# Altium footprint library OWMR.PcbLib: 59 footprints (part 3 of 4)
Each footprint in its own frame and in the unit in brackets; x right, y up, seen from the top. Pads: shape width x height; smd on the part's side, far side on the other; paste and mask are expansions set on the pad; w line width, h text height; cw(c..) or ccw(c..) is an arc to the next point about the centre after c.
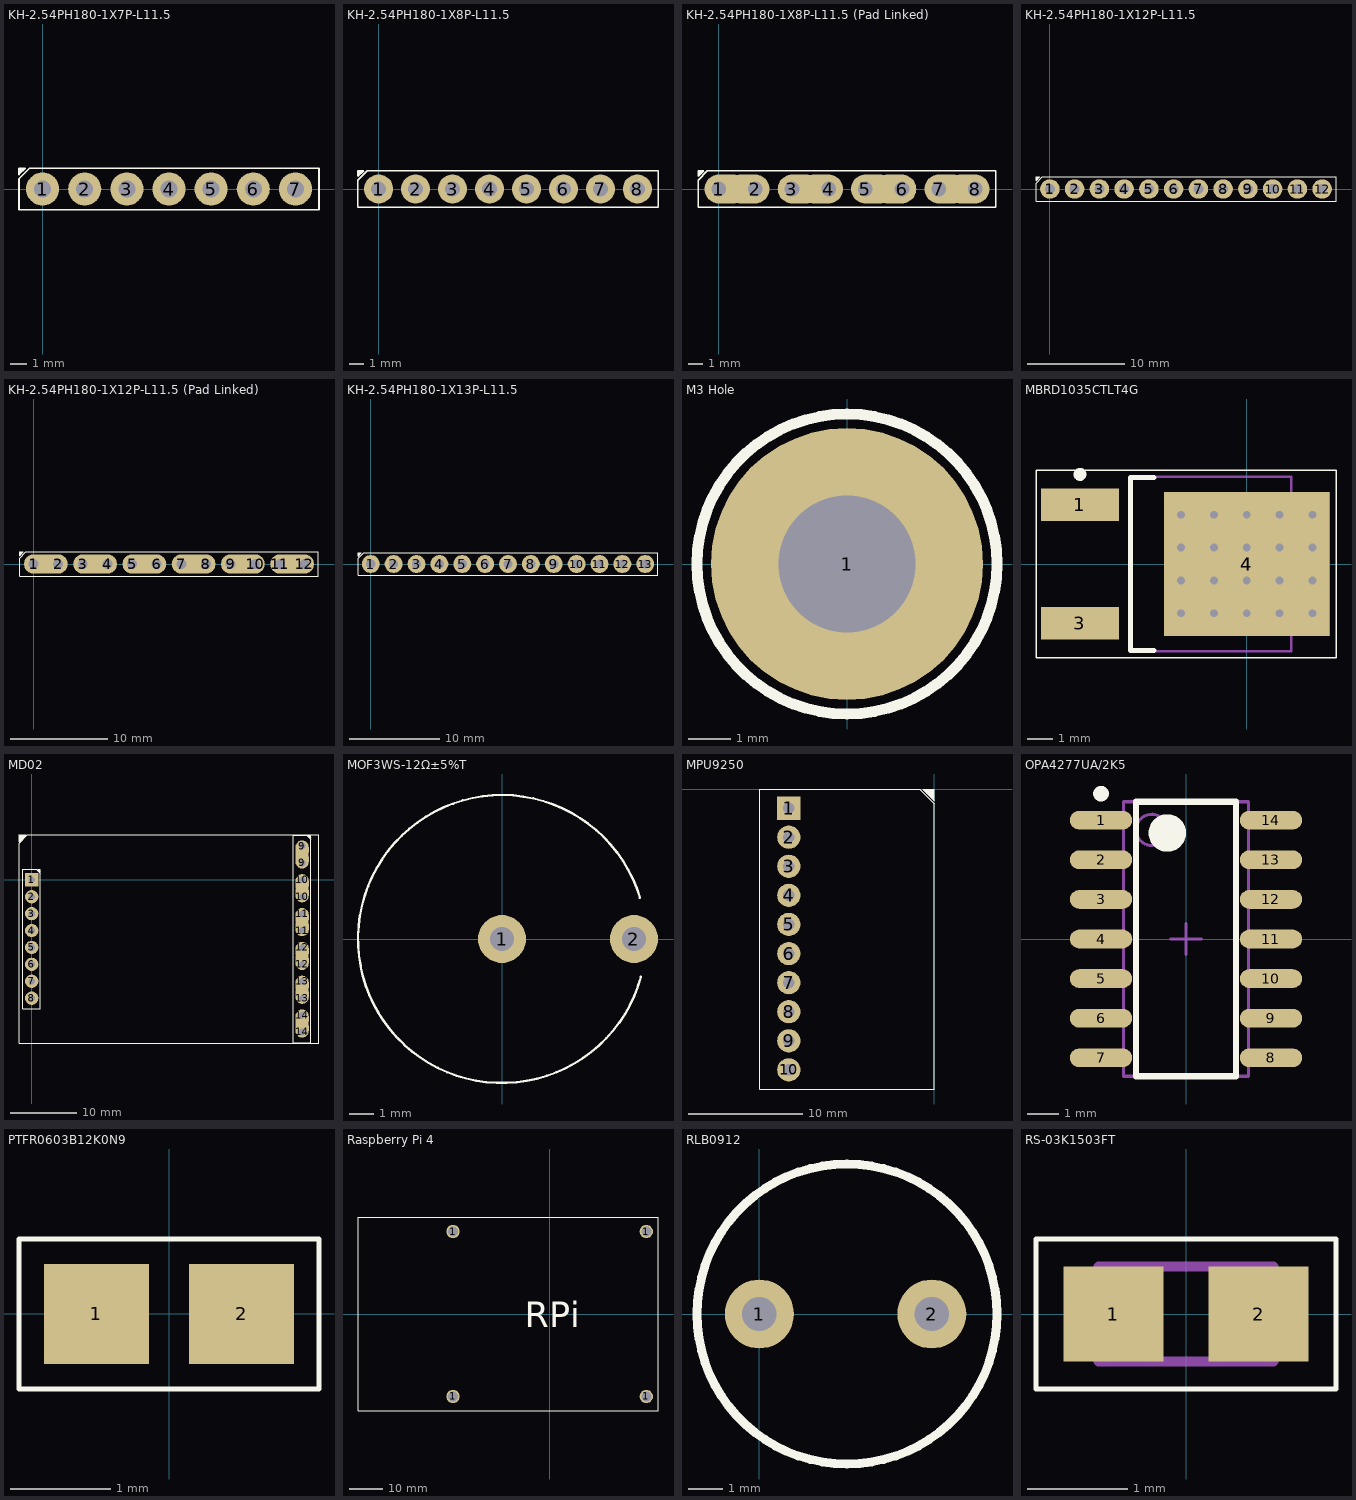
[diagram p2: the footprints below, top view; thin cyan lines are the x and y axes]

## KH-2.54PH180-1X7P-L11.5 [mm] "1x7P Pin Headers"
height 11.5
pads (7):
  round 2 hole 1.02: 1(0,0) 2(2.54,0) 3(5.08,0) 4(7.62,0) 5(10.16,0) 6(12.7,0) 7(15.24,0)
Top Overlay:
  region: -1.039,1.25 -1.42,1.25 -1.42,0.869
  lines w0.1: -1.42,-1.25 16.66,-1.25 16.66,1.25 -0.785,1.25 -1.42,0.615 -1.42,-1.25 ; -1.42,0.869 -1.42,1.25 -1.039,1.25 -1.42,0.869
3D body: height 8.9, standoff 0, extent -1.42,-1.25 16.66,1.25
3D body: height 3.2, standoff 0, extent -1.42,-1.25 16.66,1.25

## KH-2.54PH180-1X8P-L11.5 [mm] "1x8P Pin Headers"
height 11.5
pads (8):
  round 2 hole 1.02: 1(0,0) 2(2.54,0) 3(5.08,0) 4(7.62,0) 5(10.16,0) 6(12.7,0) 7(15.24,0) 8(17.78,0)
Top Overlay:
  region: -1.039,1.25 -1.42,1.25 -1.42,0.869
  lines w0.1: -1.42,-1.25 -1.42,0.615 -0.785,1.25 19.2,1.25 19.2,-1.25 -1.42,-1.25 ; -1.42,0.869 -1.039,1.25 -1.42,1.25 -1.42,0.869
3D body: height 8.9, standoff 0, extent -1.42,-1.25 19.2,1.25
3D body: height 3.2, standoff 0, extent -1.42,-1.25 19.2,1.25

## KH-2.54PH180-1X8P-L11.5 (Pad Linked) [mm] "Two Pad linked, 1x8 Pin Headers"
height 11.5
pads (8):
  oval 3x2 hole 1.02 copper offset 0.51,0: 1(0,0) 3(5.08,0) 5(10.16,0) 7(15.24,0)
  oval 3x2 hole 1.02 copper offset -0.51,0: 2(2.54,0) 4(7.62,0) 6(12.7,0) 8(17.78,0)
Top Overlay:
  region: -1.039,1.25 -1.42,1.25 -1.42,0.869
  lines w0.1: -1.42,-1.25 19.2,-1.25 19.2,1.25 -0.785,1.25 -1.42,0.615 -1.42,-1.25 ; -1.42,0.869 -1.42,1.25 -1.039,1.25 -1.42,0.869
3D body: height 8.9, standoff 0, extent -1.42,-1.25 19.2,1.25
3D body: height 3.2, standoff 0, extent -1.42,-1.25 19.2,1.25

## KH-2.54PH180-1X12P-L11.5 [mm] "1x12P Pin Headers"
height 11.5
pads (12):
  round 2 hole 1.02: 1(0,0) 2(2.54,0) 3(5.08,0) 4(7.62,0) 5(10.16,0) 6(12.7,0) 7(15.24,0) 8(17.78,0) 9(20.32,0) 10(22.86,0) 11(25.4,0) 12(27.94,0)
Top Overlay:
  region: -1.039,1.25 -1.42,1.25 -1.42,0.869
  lines w0.1: -1.42,-1.25 -1.42,0.615 -0.785,1.25 29.36,1.25 29.36,-1.25 -1.42,-1.25 ; -1.42,0.869 -1.039,1.25 -1.42,1.25 -1.42,0.869
3D body: height 8.9, standoff 0, extent -1.42,-1.25 29.36,1.25
3D body: height 3.2, standoff 0, extent -1.42,-1.25 29.36,1.25

## KH-2.54PH180-1X12P-L11.5 (Pad Linked) [mm] "Two Pad Linked, 1x12P Pin Headers"
height 11.5
pads (12):
  oval 3x2 hole 1.02 copper offset 0.51,0: 1(0,0) 3(5.08,0) 5(10.16,0) 7(15.24,0) 9(20.32,0) 11(25.4,0)
  oval 3x2 hole 1.02 copper offset -0.51,0: 2(2.54,0) 4(7.62,0) 6(12.7,0) 8(17.78,0) 10(22.86,0) 12(27.94,0)
Top Overlay:
  region: -1.039,1.25 -1.42,1.25 -1.42,0.869
  lines w0.1: -1.42,-1.25 -1.42,0.615 -0.785,1.25 29.36,1.25 29.36,-1.25 -1.42,-1.25 ; -1.42,0.869 -1.039,1.25 -1.42,1.25 -1.42,0.869
3D body: height 8.9, standoff 0, extent -1.42,-1.25 29.36,1.25
3D body: height 3.2, standoff 0, extent -1.42,-1.25 29.36,1.25

## KH-2.54PH180-1X13P-L11.5 [mm] "1x13P Pin Headers"
height 11.5
pads (13):
  round 2 hole 1.02: 1(0,0) 2(2.54,0) 3(5.08,0) 4(7.62,0) 5(10.16,0) 6(12.7,0) 7(15.24,0) 8(17.78,0) 9(20.32,0) 10(22.86,0) 11(25.4,0) 12(27.94,0) 13(30.48,0)
Top Overlay:
  region: -1.039,1.25 -1.42,1.25 -1.42,0.869
  lines w0.1: -1.42,-1.25 -1.42,0.615 -0.785,1.25 31.9,1.25 31.9,-1.25 -1.42,-1.25 ; -1.42,0.869 -1.039,1.25 -1.42,1.25 -1.42,0.869
3D body: height 8.9, standoff 0, extent -1.42,-1.25 31.9,1.25
3D body: height 3.2, standoff 0, extent -1.42,-1.25 31.9,1.25

## M3 Hole [mm] "M3 Hole"
pads (1):
  round 6.35 hole 3.2: 1(0,0)
Top Overlay:
  circle w0.254: c0,0 r3.501
Bottom Overlay:
  circle w0.254: c0,0 r3.501
Top Assembly:
  circle w0.254: c0,0 r1.626

## MBRD1035CTLT4G [mm] "35V 5A 2Channel Diode IC"
height 2.38
pads (4):
  rect 3x1.25 smd: 1(-6.45,2.29) 3(-6.45,-2.29)
  rect 6.4x5.55 smd: 4(0,0)
  rect 6.4x5.55 smd far side: 4(0,0)
via 1.27,-1.905 diameter 0.6 hole 0.3
via 1.27,-0.635 diameter 0.6 hole 0.3
via 2.54,-0.635 diameter 0.6 hole 0.3
via 2.54,0.635 diameter 0.6 hole 0.3
via 1.27,0.635 diameter 0.6 hole 0.3
via 0,0.635 diameter 0.6 hole 0.3
via 0,-0.635 diameter 0.6 hole 0.3
via 0,-1.905 diameter 0.6 hole 0.3
via -1.27,-1.905 diameter 0.6 hole 0.3
via -1.27,-0.635 diameter 0.6 hole 0.3
via -1.27,0.635 diameter 0.6 hole 0.3
via -2.54,-0.635 diameter 0.6 hole 0.3
via -2.54,0.635 diameter 0.6 hole 0.3
via -1.27,1.905 diameter 0.6 hole 0.3
via 0,1.905 diameter 0.6 hole 0.3
via 1.27,1.905 diameter 0.6 hole 0.3
via 2.54,1.905 diameter 0.6 hole 0.3
via 2.54,-1.905 diameter 0.6 hole 0.3
via -2.54,-1.905 diameter 0.6 hole 0.3
via -2.54,1.905 diameter 0.6 hole 0.3
Top Overlay:
  circle w0.25: c-6.45,3.465 r0.125
  lines w0.05: -8.15,-3.625 3.45,-3.625 3.45,3.625 -8.15,3.625 -8.15,-3.625
  lines w0.2: -3.6,-3.35 -4.5,-3.35 -4.5,3.35 -3.6,3.35
Top Assembly:
  lines w0.1: -2.85,0 -1.85,0 ; -2.35,-0.5 -2.35,0.5 ; -4.5,-3.375 1.72,-3.375 1.72,3.375 -4.5,3.375 -4.5,-3.375
3D body "DPAK229P991X238-3N.step": height 2.51, standoff 0, extent -6.49,-3.375 3.415,3.375

## MD02 [mm] "MD02_17A_Motor_Driver"
pads (20):
  rect 2x2 hole 1: 1(0,0)
  round 2 hole 1: 2(0,-2.54) 3(0,-5.08) 4(0,-7.62) 5(0,-10.16) 6(0,-12.7) 7(0,-15.24) 8(0,-17.78)
  oval 2x2.8 hole 1 copper offset 0,0.55: 9(40.64,2.54) 10(40.64,-2.54) 11(40.64,-7.62) 12(40.64,-12.7) 13(40.64,-17.78) 14(40.64,-22.86)
  oval 2x2.8 hole 1 copper offset 0,-0.55: 9(40.64,5.08) 10(40.64,0) 11(40.64,-5.08) 12(40.64,-10.16) 13(40.64,-15.24) 14(40.64,-20.32)
Top Overlay:
  region: 41.965,6.319 41.965,6.7 41.584,6.7
  region: -0.889,6.75 -1.905,5.734 -1.905,6.75
  region: 1.325,1.239 1.325,1.62 0.944,1.62
  lines w0.1: -1.905,-24.53 43.18,-24.53 43.18,6.75 -0.635,6.75 -1.905,5.48 -1.905,-24.53 ; -1.905,5.734 -1.905,6.75 -0.889,6.75 -1.905,5.734 ; -1.325,-19.4 1.325,-19.4 1.325,0.985 0.69,1.62 -1.325,1.62 -1.325,-19.4 ; 0.944,1.62 1.325,1.239 1.325,1.62 0.944,1.62 ; 39.315,-24.48 41.965,-24.48 41.965,6.065 41.33,6.7 39.315,6.7 39.315,-24.48 ; 41.584,6.7 41.965,6.319 41.965,6.7 41.584,6.7
3D body: height 8.65, standoff 0, extent 39.305,-24.483 41.955,6.697
3D body: height 8.65, standoff 0, extent -1.335,-19.4 1.315,1.617
3D body: height 3.2, standoff 0, extent 39.315,-24.449 41.965,6.731
3D body: height 3.2, standoff 0, extent -1.325,-19.4 1.325,1.651

## MOF3WS-12Ω±5%T [mm] "12Ω 3W Resistor"
height 7
pads (2):
  round 2 hole 1: 1(0,0) 2(5.5,0)
Top Overlay:
  lines w0.1: 5.747,1.724 ccw(c0,0) 5.789,-1.579

## MPU9250 [mil] "MPU9250"
pads (10):
  rect 80x80 hole 40: 1(-500,-65.75)
  round 80 hole 40: 2(-500,-165.75) 3(-500,-265.75) 4(-500,-365.75) 5(-500,-465.75) 6(-500,-565.75) 7(-500,-665.75) 8(-500,-765.75) 9(-500,-865.75) 10(-500,-965.75)
Top Overlay:
  region: -40,0 0,0 0,-40
  lines w3.94: -600,-1031.5 -600,0 -50,0 0,-50 0,-1031.5 -600,-1031.5 ; -40,0 0,0 0,-40 -40,0
3D body: height 358.27, standoff 0, extent -560,-1031.5 -440,0

## OPA4277UA/2K5 [mm] "SOP-14_3.9x8.7x1.27P"
height 1.75
pads (14):
  oval 2x0.6 smd: 1(-2.725,3.81) 2(-2.725,2.54) 3(-2.725,1.27) 4(-2.725,0) 5(-2.725,-1.27) 6(-2.725,-2.54) 7(-2.725,-3.81) 8(2.725,-3.81) 9(2.725,-2.54) 10(2.725,-1.27) 11(2.725,0) 12(2.725,1.27) 13(2.725,2.54) 14(2.725,3.81)
Top Overlay:
  circle w0.25: c-2.725,4.66 r0.125
  circle w0.6: c-0.6,3.4 r0.3
  lines w0.2: -1.6,-4.4 -1.6,4.4 1.6,4.4 1.6,-4.4 -1.6,-4.4
Top Assembly:
  circle w0.1: c-1.1,3.5 r0.5
  lines w0.1: -0.5,0 0.5,0 ; 0,-0.5 0,0.5 ; -2,-4.4 -2,4.4 2,4.4 2,-4.4 -2,-4.4
3D body "SOIC127P600X175-14N.step": height 1.75, standoff 0, extent -3,-4.4 3,4.4

## PTFR0603B12K0N9 [mm] "0603 SMD 12k 0.1% Res"
height 0.5
pads (2):
  rect 1.05x1 smd: 1(-0.725,0) 2(0.725,0)
Top Overlay:
  lines w0.05: -1.5,-0.75 1.5,-0.75 1.5,0.75 -1.5,0.75 -1.5,-0.75
3D body "RESC1608X05N.step": height 0.5, standoff 0, extent -0.9,-0.5 0.9,0.5

## Raspberry Pi 4 [mm]
pads (4):
  round 4 hole 3: 1(-29,-24.75) 1(-29,24.75) 1(29,-24.75) 1(29,24.75)
Top Overlay:
  lines w0.1: -57.5,-29.05 32.5,-29.05 32.5,29.05 -57.5,29.05 -57.5,-29.05
  text "RPi" at -7.5,-4 h7.62

## RLB0912 [mm]
pads (2):
  round 2 hole 1: 1(0,0) 2(5,0)
Top Overlay:
  circle w0.254: c2.54,0 r4.35

## RS-03K1503FT [mm] "0603 150k 1/10w Resistor"
height 0.5
pads (2):
  rect 1x0.95 smd: 1(-0.725,0) 2(0.725,0)
Top Overlay:
  lines w0.05: -1.5,-0.75 -1.5,0.75 1.5,0.75 1.5,-0.75 -1.5,-0.75
Top Assembly:
  lines w0.1: -0.875,-0.475 -0.875,0.475 0.875,0.475 0.875,-0.475 -0.875,-0.475
3D body "RESC1608X05N.step": height 0.5, standoff 0, extent -0.875,-0.475 0.875,0.475